# Altium footprint library RA0805(4D02)L.PcbLib: 1 footprints
Each footprint in its own frame and in the unit in brackets; x right, y up, seen from the top. Pads: shape width x height; smd on the part's side, far side on the other; paste and mask are expansions set on the pad; w line width, h text height; cw(c..) or ccw(c..) is an arc to the next point about the centre after c.
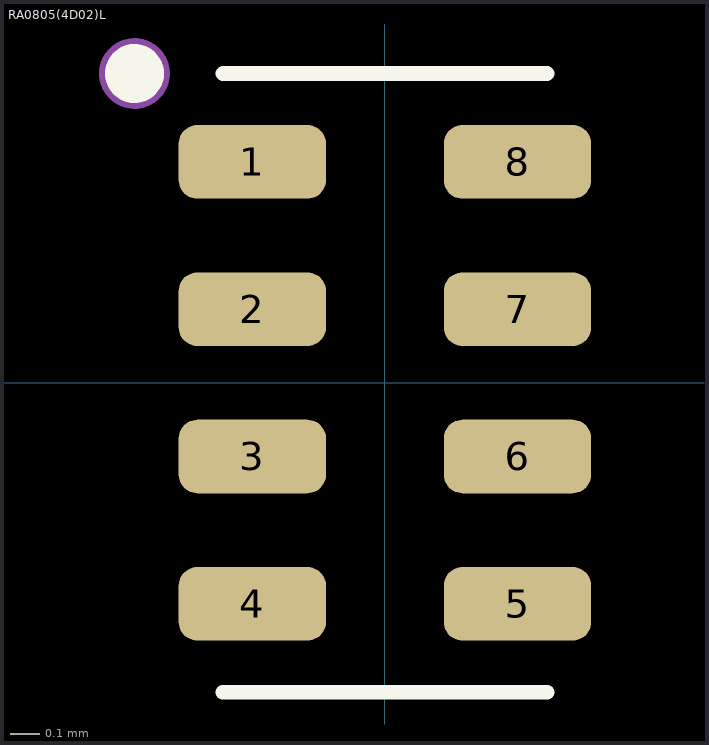
[diagram p0: the footprint, top view; thin cyan lines are the x and y axes]

## RA0805(4D02)L [mm] "Chip Array, Flat, 8-Leads, Pitch 0.50mm,  Body 2.00x1.00mm,  IPC High Density"
height 0.45
pads (8):
  rrect50% 0.5x0.25 smd: 1(-0.45,0.75) 2(-0.45,0.25) 3(-0.45,-0.25) 4(-0.45,-0.75) 5(0.45,-0.75) 6(0.45,-0.25) 7(0.45,0.25) 8(0.45,0.75)
Top Overlay:
  circle w0.1: c-0.85,1.05 r0.05
  lines w0.05: -0.55,-1.05 0.55,-1.05 ; -0.55,1.05 0.55,1.05
Assembly Top:
  circle w0.12: c-0.85,1.05 r0.06
3D body "RA 741C083 (2x1mm).STEP": height 0.35, standoff -0.03, extent -0.502,-1 0.502,1